# Altium footprint library can_bridge.PcbLib: 4 footprints
Each footprint in its own frame and in the unit in brackets; x right, y up, seen from the top. Pads: shape width x height; smd on the part's side, far side on the other; paste and mask are expansions set on the pad; w line width, h text height; cw(c..) or ccw(c..) is an arc to the next point about the centre after c.
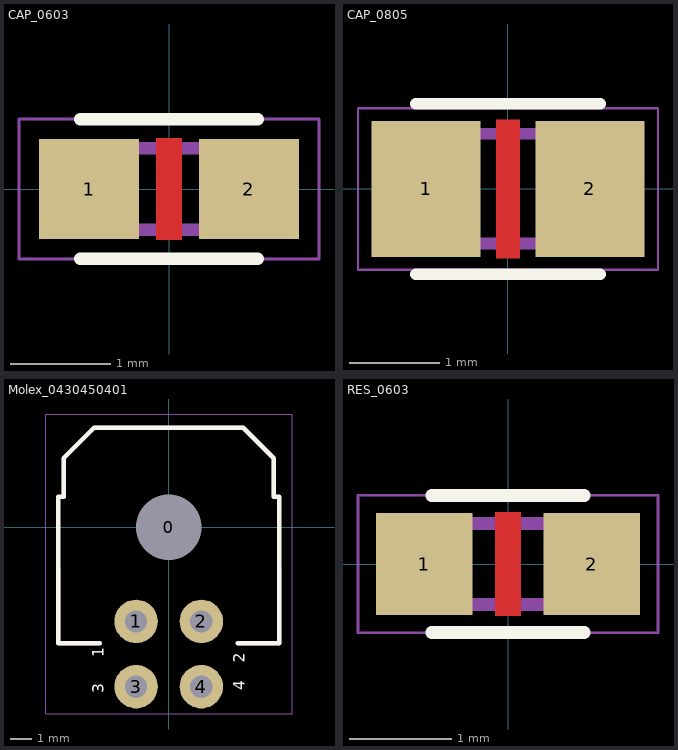
[diagram p0: the footprints below, top view; thin cyan lines are the x and y axes]

## CAP_0603 [mm]
pads (2):
  rect 1x1 smd mask+0.076: 1(-0.8,0) 2(0.8,0)
Top Layer:
  pour cut-out: -0.127,0.508 -0.127,-0.508 0.127,-0.508 0.127,0.508
Top Overlay:
  lines w0.127: -0.889,-0.699 0.889,-0.699 ; -0.889,0.699 0.889,0.699
Assembly Text Bottom:
  text ".Designator" at -1.27,-0.381 h0.76
3D Top:
  lines w0.127: -0.875,-0.406 -0.875,0.406 0.875,0.406 0.875,-0.406 -0.875,-0.406
Courtyard Top:
  lines w0.025: -1.5,-0.7 -1.5,0.7 1.5,0.7 1.5,-0.7 -1.5,-0.7
3D body: height 0.86, standoff 0, extent -0.8,-0.4 0.8,0.4

## CAP_0805 [mm]
pads (2):
  rect 1.2x1.5 smd mask+0.076: 1(-0.9,0) 2(0.9,0)
Top Layer:
  pour cut-out: -0.127,0.762 -0.127,-0.762 0.127,-0.762 0.127,0.762
Top Overlay:
  lines w0.127: -1.016,-0.94 1.016,-0.94 ; -1.016,0.94 1.016,0.94
Assembly Text Bottom:
  text ".Designator" at -0.889,-0.381 h0.76
3D Top:
  lines w0.127: -0.991,-0.6 1.016,-0.6 1.016,0.61 -0.991,0.61 -0.991,-0.6
Courtyard Top:
  lines w0.025: -1.651,-0.889 1.651,-0.889 1.651,0.889 -1.651,0.889 -1.651,-0.889
3D body: height 1.18, standoff -0.02, extent -1,-0.6 1,0.6

## Molex_0430450401 [mm] "HEADER R/A 4POS DUAL TIN SMD"
height 8.763
pads (5):
  round 1 hole 3 unplated: 0(0,0)
  round 2 hole 1.02: 1(-1.499,-4.32) 2(1.499,-4.32) 3(-1.499,-7.32) 4(1.499,-7.32)
Top Overlay:
  lines w0.203: -4.83,3.176 -3.43,4.576 3.42,4.576 4.82,3.176 ; -4.826,3.175 -4.826,1.406 -4.826,1.4 -5.08,1.4 -5.08,-5.334 -3.175,-5.334 ; 3.175,-5.334 5.08,-5.334 5.08,1.4 4.826,1.4 ; 4.82,3.175 4.82,3.176 ; 4.826,1.406 4.826,3.176 4.82,3.176
  text "4" at 3.683,-7.493 h0.89
  text "3" at -2.794,-7.62 h0.89
  text "2" at 3.683,-6.223 h0.89
  text "1" at -2.794,-5.969 h0.89
Assembly Text Bottom:
  text ".Designator" at -1.27,-0.381 h0.76
3D Top:
  lines w0.203: -5.08,-1.905 -5.08,-5.334 -3.175,-5.334 ; -4.83,3.176 -3.43,4.576 3.42,4.576 4.82,3.176 ; -4.826,1.406 -4.826,3.175 ; 3.175,-5.334 5.08,-5.334 5.08,-1.905 ; 4.82,3.175 4.82,3.176 ; 4.826,1.406 4.826,3.176 4.82,3.176
Courtyard Top:
  lines w0.025: -5.639,-8.575 5.664,-8.575 5.664,5.207 -5.639,5.207 -5.639,-8.575
3D body: height 8.77, standoff -3.18, extent -5.076,-7.64 5.074,4.6

## RES_0603 [mm]
pads (2):
  rect 0.95x1 smd mask+0.076: 1(-0.825,0) 2(0.825,0)
Top Layer:
  pour cut-out: -0.127,0.508 -0.127,-0.508 0.127,-0.508 0.127,0.508
Top Overlay:
  lines w0.127: -0.75,-0.675 0.75,-0.675 ; -0.75,0.675 0.75,0.675
Assembly Text Bottom:
  text ".Designator" at -0.95,-0.375 h0.76
3D Top:
  lines w0.127: -0.8,-0.4 0.8,-0.4 0.8,0.4 -0.8,0.4 -0.8,-0.4
Courtyard Top:
  lines w0.025: -1.475,-0.675 -1.475,0.675 1.475,0.675 1.475,-0.675 -1.475,-0.675
3D body: height 0.43, standoff -0.02, extent -0.8,-0.4 0.8,0.4